# Altium schematic symbol library Microdrive_Drive.SCHLIB: 15 symbols
Pins are listed as number, name and electrical type; pins without a type are passive.

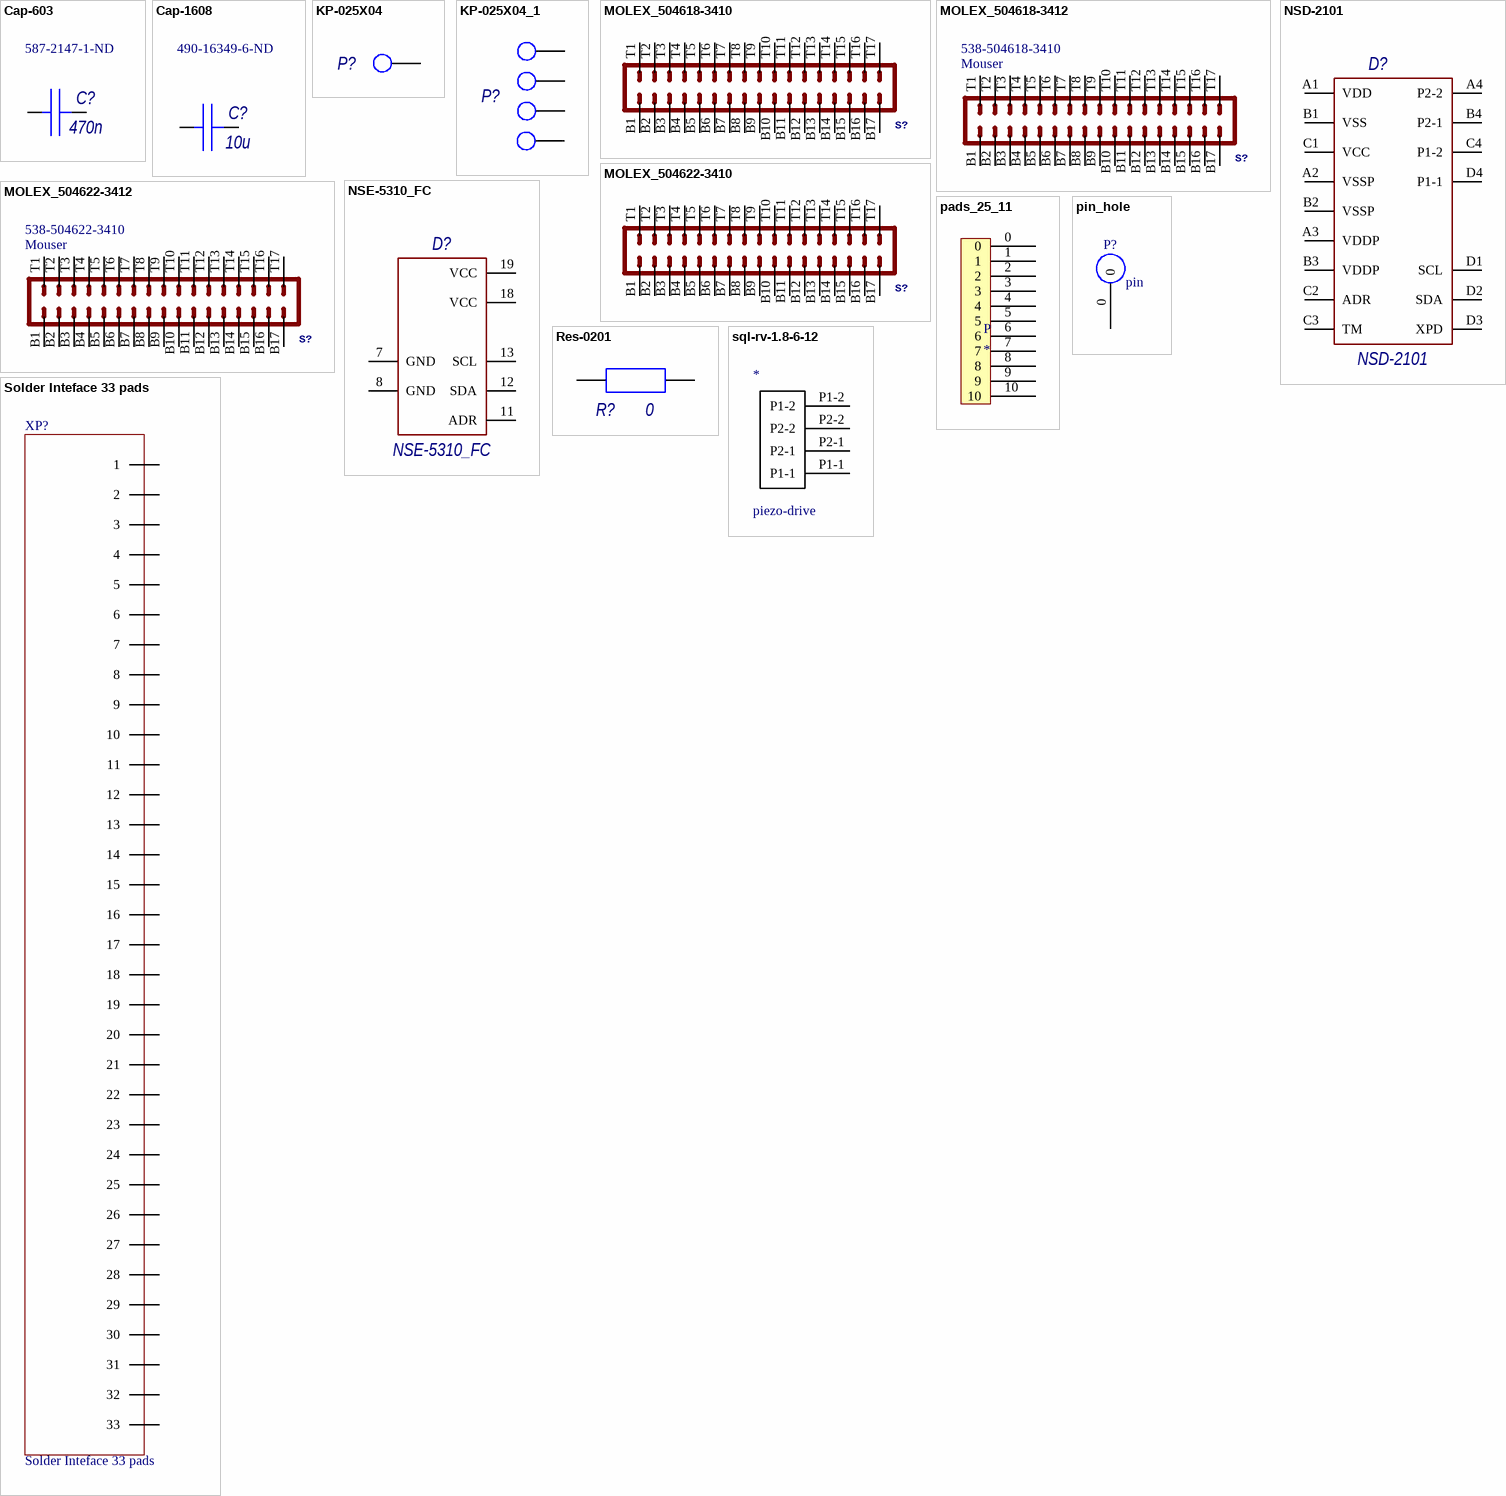
[diagram p0: symbols Cap-603 to sql-rv-1.8-6-12]

## Cap-603
designator C?, comment 470n  Supplier Part Number 1: 587-2147-1-ND
Capacitor; LatestRevisionDate: 10-Jul-2010; Publisher: RVS; Supplier 1: Digi-Key
footprint CAPC0603X03L (0201-Chip Capacitor, 2-Leads, Body 0,6x0,3mm, IPC High Density)
pins: 1, 2

## Cap-1608
designator C?, comment 10u  Supplier Part Number 1: 490-16349-6-ND
Capacitor; LatestRevisionDate: 10-Jul-2010; Publisher: RVS; Supplier 1: Digi-Key
footprint CAPC1608X09L (Chip Capacitor, 2-Leads, Body 1,6x0,8mm, IPC High Density)
pins: 1, 2

## KP-025X04
designator P?, comment 2-2  (value not drawn)
footprint KP-025-04
pins: 1

## KP-025X04_1
designator P?, comment 2-2  (value not drawn)
footprint KP-025-04x4
pins: 1, 2, 3, 4

## MOLEX_504618-3410
designator S?, comment Molex 3.5mm Pitch Slimstack 34 pin connector  (value not drawn)
GateName_1: A; SymbolName_1: OMNETICS_A7902X; DeviceSetName: OMNETICS_A79024; LibraryName: RHD2000_eval_board; Package: OMNETICS_A79024
footprint MOLEX_504618-3410; pin to pad B1>1 B2>3 B3>5 B4>7 B5>9 B6>11 B7>13 B8>15 B9>17 B10>19 B11>21 B12>23 B13>25 B14>27 B15>29 B16>31 B17>33 T1>2 T2>4 T3>6 T4>8 T5>10 T6>12 T7>14 T8>16 T9>18 T10>20 T11>22 T12>24 T13>26 T14>28 T15>30 T16>32 T17>34
pins: B1, B2, B3, B4, B5, B6, B7, B8, B9, B10, B11, B12, B13, B14, B15, B16, B17, T1, T2, T3, T4, T5, T6, T7, T8, T9, T10, T11, T12, T13, T14, T15, T16, T17

## MOLEX_504618-3412
designator S?, comment Supplier 1: Mouser  Supplier Part Number 1: 538-504618-3410  (hidden comment: Molex 3.5mm Pitch Slimstack 34 pin connector)
GateName_1: A; SymbolName_1: OMNETICS_A7902X; DeviceSetName: OMNETICS_A79024; LibraryName: RHD2000_eval_board; Package: OMNETICS_A79024
footprint MOLEX_504618-3412
pins: B1, B2, B3, B4, B5, B6, B7, B8, B9, B10, B11, B12, B13, B14, B15, B16, B17, T1, T2, T3, T4, T5, T6, T7, T8, T9, T10, T11, T12, T13, T14, T15, T16, T17

## MOLEX_504622-3410
designator S?, comment Molex 3.5mm Pitch Slimstack 34 pin connector  (value not drawn)
GateName_1: A; SymbolName_1: OMNETICS_A7902X; DeviceSetName: OMNETICS_A79024; LibraryName: RHD2000_eval_board; Package: OMNETICS_A79024
footprint MOLEX_504622-3410; pin to pad B1>1 B2>3 B3>5 B4>7 B5>9 B6>11 B7>13 B8>15 B9>17 B10>19 B11>21 B12>23 B13>25 B14>27 B15>29 B16>31 B17>33 T1>2 T2>4 T3>6 T4>8 T5>10 T6>12 T7>14 T8>16 T9>18 T10>20 T11>22 T12>24 T13>26 T14>28 T15>30 T16>32 T17>34
pins: B1, B2, B3, B4, B5, B6, B7, B8, B9, B10, B11, B12, B13, B14, B15, B16, B17, T1, T2, T3, T4, T5, T6, T7, T8, T9, T10, T11, T12, T13, T14, T15, T16, T17

## MOLEX_504622-3412
designator S?, comment Supplier 1: Mouser  Supplier Part Number 1: 538-504622-3410  (hidden comment: Molex 3.5mm Pitch Slimstack 34 pin connector)
GateName_1: A; SymbolName_1: OMNETICS_A7902X; DeviceSetName: OMNETICS_A79024; LibraryName: RHD2000_eval_board; Package: OMNETICS_A79024
footprint MOLEX_504622-3412
pins: B1, B2, B3, B4, B5, B6, B7, B8, B9, B10, B11, B12, B13, B14, B15, B16, B17, T1, T2, T3, T4, T5, T6, T7, T8, T9, T10, T11, T12, T13, T14, T15, T16, T17

## NSD-2101
designator D?
footprint BGA16C40P4X4_175X175X63 (BGA, 16-Leads, Body 1,8x1,8mm,  Pitch 0,40mm)
pins: A1 VDD, A2 VSSP, A3 VDDP, A4 P2-2, B1 VSS, B2 VSSP, B3 VDDP, B4 P2-1, C1 VCC, C2 ADR, C3 TM, C4 P1-2, D1 SCL, D2 SDA, D3 XPD, D4 P1-1

## NSE-5310_FC
designator D?
footprint NSE-5310_FC
pins: 7 GND, 8 GND, 11 ADR, 12 SDA, 13 SCL, 18 VCC, 19 VCC

## pads_25_11
designator P
solder pads 0.25 mm
footprint pads_25_11
pins: 0, 1, 2, 3, 4, 5, 6, 7, 8, 9, 10

## pin_hole
designator P?, comment pin
footprint pin_hole
pins: 0

## Res-0201
designator R?, comment 0
Resistor; LatestRevisionDate: 10-Jul-2010; Publisher: RVS
footprint RESC0603X03L (Chip Resistor, 2-Leads, Body 0,6x0,3mm, IPC High Density)
pins: 1, 2

## Solder Inteface 33 pads
designator XP?
footprint Solder Inteface 33 pads ver 3 (Solder Inteface 33 pads pad 0.2 space 0.35)
pins: 1, 2, 3, 4, 5, 6, 7, 8, 9, 10, 11, 12, 13, 14, 15, 16, 17, 18, 19, 20, 21, 22, 23, 24, 25, 26, 27, 28, 29, 30, 31, 32, 33

## sql-rv-1.8-6-12
designator piezo-drive
Squiggle motor
footprint sql-rv-1.8-6-12
pins: P1-1, P1-2, P2-1, P2-2